# Altium schematic symbol library SCH - INTERFACE - MICROCHIP LAN8742A-CZ.SchLib: 1 symbol
Pins are listed as number, name and electrical type; pins without a type are passive.

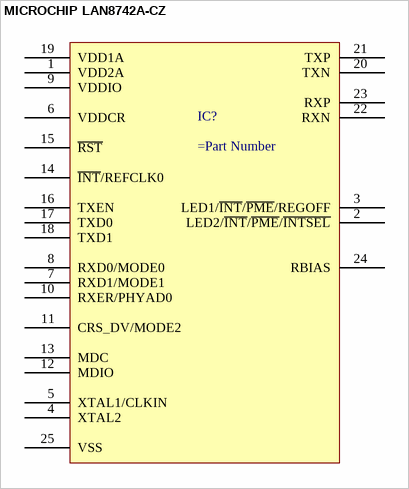
[diagram p0: symbol MICROCHIP LAN8742A-CZ]

## MICROCHIP LAN8742A-CZ
designator IC?
pins: 1 VDD2A, 2 LED2/~{INT}/~{PME}/~{INTSEL}, 3 LED1/~{INT}/~{PME}/REGOFF, 4 XTAL2, 5 XTAL1/CLKIN, 6 VDDCR, 7 RXD1/MODE1, 8 RXD0/MODE0, 9 VDDIO, 10 RXER/PHYAD0, 11 CRS_DV/MODE2, 12 MDIO, 13 MDC, 14 ~{INT}/REFCLK0, 15 ~{RST}, 16 TXEN, 17 TXD0, 18 TXD1, 19 VDD1A, 20 TXN, 21 TXP, 22 RXN, 23 RXP, 24 RBIAS, 25 VSS